# EAGLE library part LT3011 (library PowerProducts)
50mA, 3V to 80V Low Dropout Micropower Linear Regulator with PWRGD
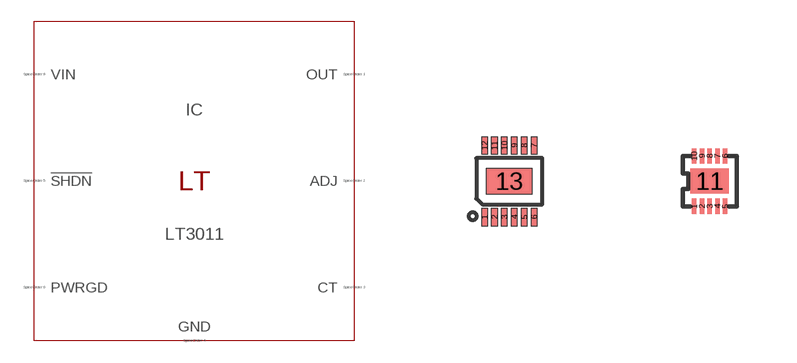
[diagram p398: symbol with the pads of MSOP12(MSE); footprints MSOP12(MSE), DFN10(DD)]

Designator prefix IC

## LT3011MSE (SPICEMODEL: LT3010.lib; SPICEPREFIX: X; VALUE2: LT3011)  [MSOP12(MSE)]
2  OUT  pas
3  ADJ  pas
4  GND  pas
6  PWRGD  pas
7  CT  pas
9  !SHDN  pas
11  VIN  pas
13  GND  pas

## LT3011 (SPICEMODEL: LT3010.lib; SPICEPREFIX: X; VALUE2: LT3011)  [DFN10(DD)]
1  OUT  pas
2  ADJ  pas
3  GND  pas
5  PWRGD  pas
6  CT  pas
8  !SHDN  pas
10  VIN  pas
11  GND  pas

## Footprint MSOP12(MSE) (pad centres in mm)
Package generated from: MSOP12(MSE).asc (!PADS-POWERPCB-V9.3-BASIC! DESIGN DATABASE ASCII FILE 1.0) with :import-pads-powerpcb-v5.ulp Version 1.0.1 at 04.10.2012 14:11:19
smd 0.165 x 0.435: 1 -0.619,-0.895; 2 -0.372,-0.895; 3 -0.124,-0.895; 4 0.124,-0.895; 5 0.372,-0.895; 6 0.619,-0.895; 7 0.619,0.895; 8 0.372,0.895; 9 0.124,0.895; 10 -0.124,0.895; 11 -0.372,0.895; 12 -0.619,0.895
smd 1.161 x 0.629: 13 0,0

## Footprint DFN10(DD) (pad centres in mm)
Package generated from: DFN10(DD).asc (!PADS-POWERPCB-V9.3-BASIC! DESIGN DATABASE ASCII FILE 1.0) with :import-pads-powerpcb-v5.ulp Version 1.0.1 at 04.10.2012 14:11:16
smd 0.116 x 0.387: 1 -0.387,-0.629; 2 -0.194,-0.629; 3 0,-0.629; 4 0.194,-0.629; 5 0.387,-0.629; 6 0.387,0.629; 7 0.194,0.629; 8 0,0.629; 9 -0.194,0.629; 10 -0.387,0.629
smd 0.968 x 0.629: 11 0,0